# Altium footprint library HAKATAYA.PcbLib: 227 footprints (part 6 of 15)
Each footprint in its own frame and in the unit in brackets; x right, y up, seen from the top. Pads: shape width x height; smd on the part's side, far side on the other; paste and mask are expansions set on the pad; w line width, h text height; cw(c..) or ccw(c..) is an arc to the next point about the centre after c.
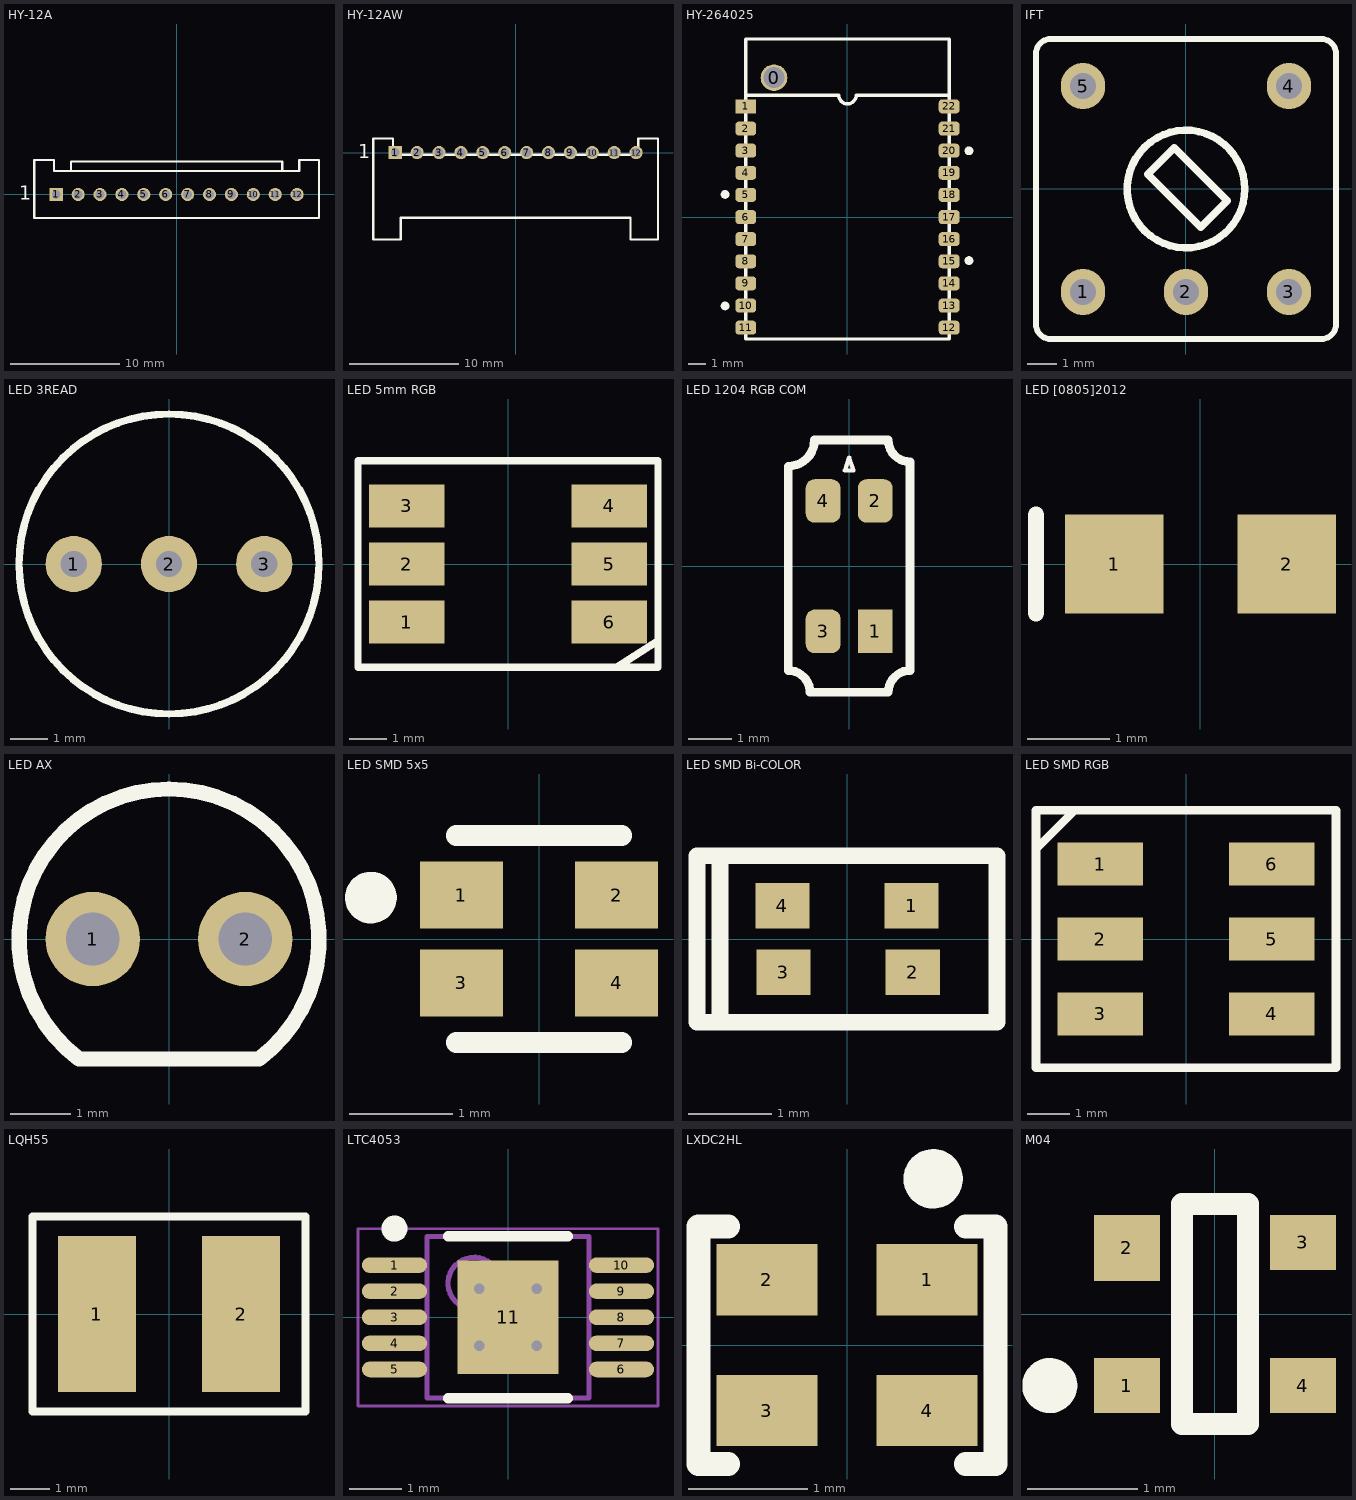
[diagram p5: the footprints below, top view; thin cyan lines are the x and y axes]

## HY-12A [mm] "YOLINK PHB CONNECTOR A2006-xxA 2.00mm"
height 7.8
pads (12):
  rect 1.2x1.2 hole 0.8: 1(-11,0)
  round 1.2 hole 0.8: 2(-9,0) 3(-7,0) 4(-5,0) 5(-3,0) 6(-1,0) 7(1,0) 8(3,0) 9(5,0) 10(7,0) 11(9,0) 12(11,0)
Top Overlay:
  lines w0.2: -9.65,2.15 -9.65,3 9.65,3 9.65,2.15 ; -13,-2.15 13,-2.15 13,3.15 11.2,3.15 11.2,2.15 -11.2,2.15 -11.2,3.15 -13,3.15 -13,-2.15
  text "1" at -14.4,-0.5 h1.27

## HY-12AW [mm] "YOLINK PHB CONNECTOR A2006-xxA 2.00mm"
height 5.1
pads (12):
  rect 1.2x1.2 hole 0.8: 1(-11,0)
  round 1.2 hole 0.8: 2(-9,0) 3(-7,0) 4(-5,0) 5(-3,0) 6(-1,0) 7(1,0) 8(3,0) 9(5,0) 10(7,0) 11(9,0) 12(11,0)
Top Overlay:
  lines w0.2: -13,-7.95 -13,1.3 -11.2,1.3 -11.2,-0.2 11.2,-0.2 11.2,1.3 13,1.3 13,-7.95 10.5,-7.95 10.5,-5.95 -10.5,-5.95 -10.5,-7.95 -13,-7.95
  text "1" at -14.4,-0.5 h1.27

## HY-264025 [mm] "TTC"
height 2.3
pads (23):
  round 1.524 hole 1.2: 0(-4.215,8)
  rect 1.2x0.8 smd: 1(-5.835,6.35)
  rrect50% 1.2x0.8 smd: 2(-5.835,5.08) 3(-5.835,3.81) 4(-5.835,2.54) 5(-5.835,1.27) 6(-5.835,0) 7(-5.835,-1.27) 8(-5.835,-2.54) 9(-5.835,-3.81) 10(-5.835,-5.08) 11(-5.835,-6.35) 12(5.835,-6.35) 13(5.835,-5.08) 14(5.835,-3.81) 15(5.835,-2.54) 16(5.835,-1.27) 17(5.835,0) 18(5.835,1.27) 19(5.835,2.54) 20(5.835,3.81) 21(5.835,5.08) 22(5.835,6.35)
Top Overlay:
  circle w0.25: c-7.025,1.3 r0.125
  circle w0.25: c6.975,3.8 r0.125
  circle w0.25: c-7.025,-5.1 r0.125
  circle w0.25: c6.975,-2.5 r0.125
  lines w0.2: -5.835,7 -0.5,7 ccw(c0,7) 0.5,7 5.835,7 ; -5.835,-7 5.835,-7 5.835,10.22 -5.835,10.22 -5.835,-7

## IFT [mm]
height 13
pads (5):
  oval 1.5x1.575 hole 0.89: 1(-3.5,-3.5) 2(0,-3.5) 3(3.5,-3.5) 4(3.5,3.5) 5(-3.5,3.5)
Top Overlay:
  circle w0.254: c0,0 r2
  lines w0.2: -5.1,-4.6 ccw(c-4.6,-4.6) -4.6,-5.1 4.6,-5.1 ccw(c4.6,-4.6) 5.1,-4.6 5.1,4.6 ccw(c4.6,4.6) 4.6,5.1 -4.6,5.1 ccw(c-4.6,4.6) -5.1,4.6 -5.1,-4.6
  lines w0.254: -1.3,0.5 -0.4,1.4 1.4,-0.4 0.5,-1.3 -1.3,0.5

## LED 3READ [mm]
height 15
pads (3):
  round 1.5 hole 0.7: 1(-2.54,0) 2(0,0) 3(2.54,0)
Top Overlay:
  circle w0.2: c0,0 r4

## LED 5mm RGB [mm]
pads (6):
  rect 2x1.15 smd: 1(-2.7,-1.55) 2(-2.7,0) 3(-2.7,1.55) 4(2.7,1.55) 5(2.7,0) 6(2.7,-1.55)
Top Overlay:
  lines w0.2: 2.9,-2.75 4,-2.05 ; -4,-2.75 -4,2.75 4,2.75 4,-2.75 -4,-2.75

## LED 1204 RGB COM [mm]
height 1.5
pads (4):
  rect 0.8x1 smd: 1(0.6,-1.5)
  rrect50% 0.8x1 smd: 2(0.6,1.5) 3(-0.6,-1.5) 4(-0.6,1.5)
Top Overlay:
  lines w0.1: -0.1,2.2 0,2.5 0.1,2.2 -0.1,2.2
  lines w0.2: -1.4,-2.4 cw(c-1.4,-2.9) -0.9,-2.9 0.9,-2.9 cw(c1.4,-2.9) 1.4,-2.4 1.4,2.4 cw(c1.4,2.9) 0.9,2.9 -0.8,2.9 cw(c-1.4,2.9) -1.4,2.3 -1.4,-2.4

## LED [0805]2012 [mm]
pads (2):
  rect 1.2x1.2 smd: 1(-1.05,0) 2(1.05,0)
Top Overlay:
  lines w0.2: -2,-0.6 -2,0.6

## LED AX [mil]
pads (2):
  round 62 hole 35.04: 1(-50,0) 2(50,0)
Top Overlay:
  lines w10: -59.06,-78.74 cw(c0,0) 59.06,-78.74 -59.06,-78.74

## LED SMD 5x5 [mm] "Tri-Color 1615 CIP LED"
height 0.55
pads (4):
  rect 0.8x0.65 smd: 1(-0.75,0.425) 2(0.75,0.425) 3(-0.75,-0.425) 4(0.75,-0.425)
Top Overlay:
  circle w0.25: c-1.625,0.4 r0.125
  lines w0.2: -0.8,-1 0.8,-1 ; -0.8,1 0.8,1

## LED SMD Bi-COLOR [mm] "PITCH 0.75 / 4READS"
height 0.6
pads (4):
  rect 0.65x0.55 smd: 1(0.775,0.4) 2(0.788,-0.4) 3(-0.762,-0.4) 4(-0.775,0.4)
Top Overlay:
  lines w0.2: -1.524,-0.992 -1.524,1 ; -1.8,-1 -1.8,1 1.8,1 1.8,-1 -1.8,-1

## LED SMD RGB [mm] "Body 5x5mm 3LED"
height 1.6
pads (6):
  rect 2x1 smd: 1(-2,1.75) 2(-2,0) 3(-2,-1.75) 4(2,-1.75) 5(2,0) 6(2,1.75)
Top Overlay:
  lines w0.2: -3.5,2.1 -2.6,3 ; -3.5,-3 -3.5,3 3.5,3 3.5,-3 -3.5,-3

## LQH55 [mm] "LQH55DN_03  Body 5.7x5.0mm"
height 4.7
pads (2):
  rect 2x4 smd: 1(-1.85,0) 2(1.85,0)
Top Overlay:
  lines w0.2: -3.5,-2.5 -3.5,2.5 3.5,2.5 3.5,-2.5 -3.5,-2.5

## LTC4053 [mm] "LINEAR BATT. CHAGER"
height 0.86
pads (11):
  oval 1.25x0.3 smd: 1(-2.175,1) 2(-2.175,0.5) 3(-2.175,0) 4(-2.175,-0.5) 5(-2.175,-1) 6(2.175,-1) 7(2.175,-0.5) 8(2.175,0) 9(2.175,0.5) 10(2.175,1)
  rect 1.94x2.17 smd: 11(0,0)
via 0.55,-0.55 diameter 0.5 hole 0.2
via -0.55,-0.55 diameter 0.5 hole 0.2
via 0.55,0.55 diameter 0.5 hole 0.2
via -0.55,0.55 diameter 0.5 hole 0.2
Top Overlay:
  circle w0.25: c-2.175,1.7 r0.125
  lines w0.2: -1.15,-1.55 1.15,-1.55 ; -1.15,1.55 1.15,1.55
Mechanical 13:
  circle w0.1: c-0.65,0.65 r0.5
  lines w0.1: -1.55,-1.55 1.55,-1.55 1.55,1.55 -1.55,1.55 -1.55,-1.55
Mechanical 15:
  lines w0.05: -2.875,-1.7 2.875,-1.7 2.875,1.7 -2.875,1.7 -2.875,-1.7
  lines w0.1: -0.5,0 0.5,0 ; 0,-0.5 0,0.5
3D body: height 1.1, standoff 0.05, extent -1.55,-1.55 1.55,1.55

## LXDC2HL [mm] "MURATA Micro DC-DC"
height 1.1
pads (4):
  rect 0.85x0.6 smd: 1(0.675,0.55) 2(-0.675,0.55) 3(-0.675,-0.55) 4(0.675,-0.55)
Top Overlay:
  circle w0.25: c0.725,1.4 r0.125
  lines w0.2: -1,-1 -1.25,-1 -1.25,1 -1,1 ; 1,-1 1.25,-1 1.25,1 1,1

## M04 [mm] "TOSHIBA M04 FLAT READ"
height 0.59
pads (4):
  rect 0.6x0.5 smd: 1(-0.8,-0.65) 3(0.8,0.65) 4(0.8,-0.65)
  rect 0.6x0.6 smd: 2(-0.8,0.6)
Top Overlay:
  circle w0.25: c-1.5,-0.65 r0.125
  lines w0.2: -0.3,-1 -0.3,1 0.3,1 0.3,-1 -0.3,-1